# Altium schematic symbol library SCH - POWER - SWITCHMODE - TI TPS65261-1RHB.SchLib: 1 symbol
Pins are listed as number, name and electrical type; pins without a type are passive.

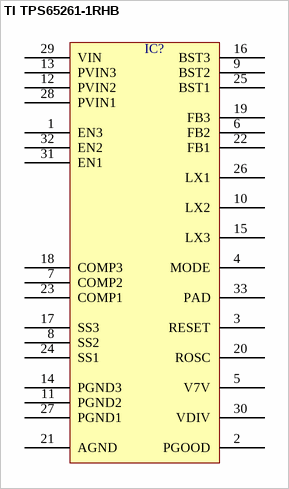
[diagram p0: symbol TI TPS65261-1RHB]

## TI TPS65261-1RHB
designator IC?  (value not drawn)
pins: 1 EN3, 2 PGOOD, 3 RESET, 4 MODE, 5 V7V, 6 FB2, 7 COMP2, 8 SS2, 9 BST2, 10 LX2, 11 PGND2, 12 PVIN2, 13 PVIN3, 14 PGND3, 15 LX3, 16 BST3, 17 SS3, 18 COMP3, 19 FB3, 20 ROSC, 21 AGND, 22 FB1, 23 COMP1, 24 SS1, 25 BST1, 26 LX1, 27 PGND1, 28 PVIN1, 29 VIN, 30 VDIV, 31 EN1, 32 EN2, 33 PAD